# Altium schematic symbol library digital_components.SchLib: 5 symbols
Pins are listed as number, name and electrical type; pins without a type are passive.

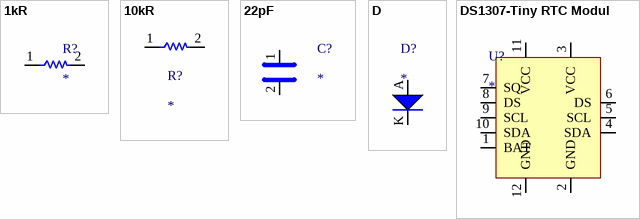
[diagram p0: symbols 1kR to DS1307-Tiny RTC Modul]

## 1kR
designator R?
VISHAY   MCW0406MD1001BP100   RES, THIN FILM, 1K, 0.1%, 0.25W, 0406; Resistance: 1kR; Power Rating: 250mW; Voltage Rating: 50V; Temperature Coefficient: 25ppm/°C; Supplier 1: Newark; Manufacturer: Vishay; Manufacturer Part Number: MCW0406MD1001BP100; RoHS: Yes; Category: Chip SMD Resistors; Pricing 1: 1000=0.44000 (USD); Case/Package: 0406; Case Code (Metric): 1610; Case Code (Imperial): 0406; Contact Plating: Tin; Size Code: 0406; Min Operating Temperature: -55°C; Max Operating Temperature: 155°C; Package Quantity: 1000; Tolerance: 0.1%; Packaging: Tape and Reel; Resistor Type: Thin Film; Number of Terminations: 2; Max Power Dissipation: 250mW; Voltage Rating (DC): 50V; Features: Automotive AEC-Q200,Moisture Resistant,Anti-Sulfur; Series: MCW0406 - Precision; Resistance Tolerance: 0.1%; Construction: Rectangular; Length: 0.039inch; Width: 0.063inch; Height: 0.014inch; Depth: 1.5mm; Height - Seated (Max): 0.014inch; REACH SVHC: Unknown; Military Standard: Not; Lead Free: Lead Free; RoHS Compliant: Yes; ComponentLink1URL: https://datasheet.ciiva.com/2610/mcw406atpre-2610743.pdf?src-supplier=Digi-Key; ComponentLink1Description: https://datasheet.ciiva.com/2610/mcw406atpre-2610743.pdf?src-supplier=Digi-Key; ComponentLink2URL: https://datasheet.ciiva.com/2610/mcw406atpre-2610744.pdf?src-supplier=Digi-Key; ComponentLink2Description: https://datasheet.ciiva.com/2610/mcw406atpre-2610744.pdf?src-supplier=Digi-Key; ComponentLink3URL: https://datasheet.ciiva.com/2610/mcw406atpre-2610745.pdf?src-supplier=Digi-Key; ComponentLink3Description: https://datasheet.ciiva.com/2610/mcw406atpre-2610745.pdf?src-supplier=Digi-Key; Supplier Part Number 1: 31W9014
footprint RESC2012X06N (Chip Resistor, 2-Leads, Body 2.00x1.25mm, IPC Medium Density)
pins: 1, 2

## 10kR
designator R?
RES SMD 10K OHM 1/4W 0604 WIDE; Manufacturer: Vishay; Manufacturer Part Number: MCW0406MD1002BP100; Resistance: 10kR; Power Rating: 250mW; Tolerance: 0.1%; Voltage Rating: 50V; Temperature Coefficient: 25ppm/°C; Supplier 1: Newark; RoHS: Yes; Category: Chip SMD Resistors; Pricing 1: 1000=0.44000 (USD); Case/Package: Molded; Case Code (Imperial): 0406; Contact Plating: Tin; Case Code (Metric): 1016; Min Operating Temperature: -55°C; Max Operating Temperature: 155°C; Packaging: Tape and Reel; Voltage Rating (DC): 50V; Resistor Type: Thin Film; Length: 1.6mm; Width: 1mm; Height: 0.3mm; Depth: 1.5mm; REACH SVHC: Unknown; Military Standard: Not; Lead Free: Lead Free; ComponentLink1URL: http://www.farnell.com/datasheets/2046107.pdf?src-supplier=Farnell; ComponentLink1Description: http://www.farnell.com/datasheets/2046107.pdf?src-supplier=Farnell; ComponentLink2URL: http://www.mouser.com/ds/2/427/mcw406atpre-111221.pdf?src-supplier=Mouser; ComponentLink2Description: http://www.mouser.com/ds/2/427/mcw406atpre-111221.pdf?src-supplier=Mouser; ComponentLink3URL: http://components.arrow.com/part/dataview/53344020S9999208N6892?src-supplier=Arrow+Electronics; ComponentLink3Description: http://components.arrow.com/part/dataview/53344020S9999208N6892?src-supplier=Arrow+Electronics; ComponentLink4URL: http://www.farnell.com/datasheets/2046107.pdf?src-supplier=Element14; ComponentLink4Description: http://www.farnell.com/datasheets/2046107.pdf?src-supplier=Element14; ComponentLink5URL: http://www.vishay.com/docs/28847/mcw406atpre.pdf?src-supplier=Digi-Key; ComponentLink5Description: http://www.vishay.com/docs/28847/mcw406atpre.pdf?src-supplier=Digi-Key; ComponentLink6URL: http://www.vishay.com/docs/28847/mcw406atpre.pdf?src-supplier=Avnet; ComponentLink6Description: http://www.vishay.com/docs/28847/mcw406atpre.pdf?src-supplier=Avnet; Supplier Part Number 1: 31W9016
footprint RESC2012X06N (Chip Resistor, 2-Leads, Body 2.00x1.25mm, IPC Medium Density)
pins: 1, 2

## 22pF
designator C?
CAP CER 22PF 50V C0G/NP0 1210; Manufacturer: Wurth Electronics; Manufacturer Part Number: 885012009007; Tolerance: 5%; Supplier 1: Digi-Key; RoHS: Yes; Category: Ceramic Capacitors; Stock 1: 854; Pricing 1: 1=0.60000, 10=0.54500, 100=0.48860, 500=0.43222, 1000=0.27160 (USD); Mount: Surface Mount; Case/Package: 1210; Case Code (Metric): 3225; Case Code (Imperial): 1210; Min Operating Temperature: -55°C; Max Operating Temperature: 125°C; Packaging: Tape and Reel; Capacitance: 22pF; Voltage Rating: 50V; Length: 0.126inch; Width: 0.098inch; Thickness: 0.041inch; RoHS Compliant: Yes; ComponentLink1URL: https://katalog.we-online.de/pbs/datasheet/885012009007.pdf?src-supplier=Digi-Key; ComponentLink1Description: https://katalog.we-online.de/pbs/datasheet/885012009007.pdf?src-supplier=Digi-Key; Supplier Part Number 1: 732-7599-1-ND
footprint CAPC3028X26N (Chip Capacitor, 2-Leads, Body 2.98x2.79mm, IPC Medium Density)
pins: 1, 2

## D
designator D?
Manufacturer: Taiwan Semiconductor; Manufacturer Part Number: MMBD4148 RFG; Supplier 1: Mouser; RoHS: Yes; Stock 1: 5996; Pricing 1: 1=0.22000, 10=0.19000, 50=0.19000, 100=0.12600, 1000=0.04200, 10000=0.02700 (USD); RoHS Compliant: Yes; Supplier Part Number 1: 821-MMBD4148RFG
footprint Diode_Through hole
pins: A (power), K (power)

## DS1307-Tiny RTC Modul
designator U?
footprint DS1307-Tiny RTC Modul
pins: 1 BAT, 2 GND, 3 VCC, 4 SDA, 5 SCL, 6 DS, 7 SQ, 8 DS, 9 SCL, 10 SDA, 11 VCC, 12 GND